# Altium footprint library booster_pcb_lib.PcbLib: 5 footprints
Each footprint in its own frame and in the unit in brackets; x right, y up, seen from the top. Pads: shape width x height; smd on the part's side, far side on the other; paste and mask are expansions set on the pad; w line width, h text height; cw(c..) or ccw(c..) is an arc to the next point about the centre after c.
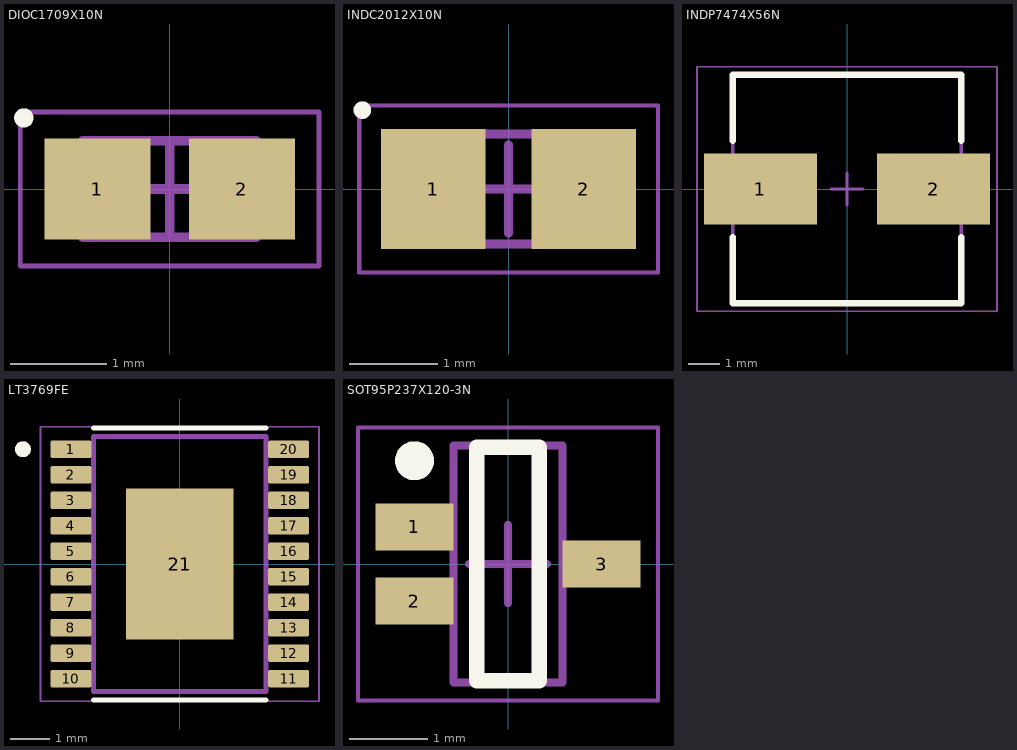
[diagram p0: the footprints below, top view; thin cyan lines are the x and y axes]

## DIOC1709X10N [mm] "Chip Diode, 2-Leads, Body 1.70x0.90mm, IPC Medium Density"
height 0.95
pads (2):
  rect 1.1x1.05 smd: 1(-0.75,0) 2(0.75,0)
Top Overlay:
  circle w0.1: c-1.512,0.737 r0.05
Mechanical 13:
  lines w0.1: -0.9,-0.5 -0.9,0.5 0.9,0.5 0.9,-0.5 -0.9,-0.5
Mechanical 15:
  lines w0.05: -1.55,-0.8 -1.55,0.8 1.55,0.8 1.55,-0.8 -1.55,-0.8
  lines w0.1: -0.5,0 0.5,0 ; 0,-0.5 0,0.5
3D body "DIOC1709X10N.step": height 0.95, standoff 0, extent -0.9,-0.5 0.9,0.5

## INDC2012X10N [mm] "Chip Inductor, 2-Leads, Body 2.00x1.24mm, IPC Medium Density"
height 0.95
pads (2):
  rect 1.19x1.37 smd: 1(-0.855,0) 2(0.855,0)
Top Overlay:
  circle w0.1: c-1.662,0.897 r0.05
Mechanical 13:
  lines w0.1: -1.1,-0.625 1.1,-0.625 1.1,0.625 -1.1,0.625 -1.1,-0.625
Mechanical 15:
  lines w0.05: -1.7,-0.95 1.7,-0.95 1.7,0.95 -1.7,0.95 -1.7,-0.95
  lines w0.1: -0.5,0 0.5,0 ; 0,-0.5 0,0.5
3D body "INDC2012X10N.step": height 0.95, standoff 0, extent -1.1,-0.625 1.1,0.625

## INDP7474X56N [mm] "Precision Wire Wound Inductor, 2-Leads, Body 7.35x7.35mm, IPC Medium Density"
height 5.6
pads (2):
  rect 3.55x2.25 smd: 1(-2.725,0) 2(2.725,0)
Top Overlay:
  lines w0.2: -3.6,-1.525 -3.6,-3.6 3.6,-3.6 3.6,-1.525 ; -3.6,1.525 -3.6,3.6 3.6,3.6 3.6,1.525
Mechanical 13:
  lines w0.1: -3.6,-3.6 -3.6,3.6 3.6,3.6 3.6,-3.6 -3.6,-3.6
Mechanical 15:
  lines w0.05: -4.725,-3.85 -4.725,3.85 4.725,3.85 4.725,-3.85 -4.725,-3.85
  lines w0.1: -0.5,0 0.5,0 ; 0,-0.5 0,0.5
3D body "INDP7474X56N.step": height 5.7, standoff 0, extent -3.775,-3.675 3.775,3.675

## LT3769FE [mm] "20-lead FE package"
pads (21):
  rrect25% 1.05x0.45 smd: 1(-2.775,2.925) 2(-2.775,2.275) 3(-2.775,1.625) 4(-2.775,0.975) 5(-2.775,0.325) 6(-2.775,-0.325) 7(-2.775,-0.975) 8(-2.775,-1.625) 9(-2.775,-2.275) 10(-2.775,-2.925) 11(2.775,-2.925) 12(2.775,-2.275) 13(2.775,-1.625) 14(2.775,-0.975) 15(2.775,-0.325) 16(2.775,0.325) 17(2.775,0.975) 18(2.775,1.625) 19(2.775,2.275) 20(2.775,2.925)
  rect 2.74x3.86 smd paste-3: 21(0,0)
Top Overlay:
  circle w0.2: c-4,2.925 r0.1
  lines w0.127: -2.2,-3.47 2.2,-3.47 ; -2.2,3.47 2.2,3.47
Top Paste:
  region: 0.96,-1.36 -0.96,-1.36 -0.96,1.36 0.96,1.36
Mechanical 13:
  circle w0.2: c-4,2.925 r0.1
  lines w0.127: -2.2,-3.25 -2.2,3.25 2.2,3.25 2.2,-3.25 -2.2,-3.25
Mechanical 15:
  lines w0.05: -3.55,-3.5 -3.55,3.5 3.55,3.5 3.55,-3.5 -3.55,-3.5
3D body "step_temp.STEP": height 1.2, standoff 0, extent -3.2,-3.25 3.2,3.25

## SOT95P237X120-3N [mm] "SOT223, 3-Leads, Body 2.92x2.37mm (avg), Pitch 0.95mm, IPC Medium Density"
height 1.2
pads (3):
  rect 1x0.6 smd: 1(-1.2,0.475) 2(-1.2,-0.475) 3(1.2,0)
Top Overlay:
  circle w0.25: c-1.2,1.325 r0.125
  lines w0.2: -0.4,-1.5 -0.4,1.5 0.4,1.5 0.4,-1.5 -0.4,-1.5
Mechanical 13:
  lines w0.1: -0.7,-1.52 0.7,-1.52 0.7,1.52 -0.7,1.52 -0.7,-1.52
Mechanical 15:
  lines w0.05: -1.925,-1.75 1.925,-1.75 1.925,1.75 -1.925,1.75 -1.925,-1.75
  lines w0.1: -0.5,0 0.5,0 ; 0,-0.5 0,0.5
3D body "SOT95P237X120-3N.step": height 1.2, standoff 0.02, extent -0.975,-1.52 0.975,1.52